# Altium footprint library Rosenberger.PCBLIB: 1 footprints
Each footprint in its own frame and in the unit in brackets; x right, y up, seen from the top. Pads: shape width x height; smd on the part's side, far side on the other; paste and mask are expansions set on the pad; w line width, h text height; cw(c..) or ccw(c..) is an arc to the next point about the centre after c.
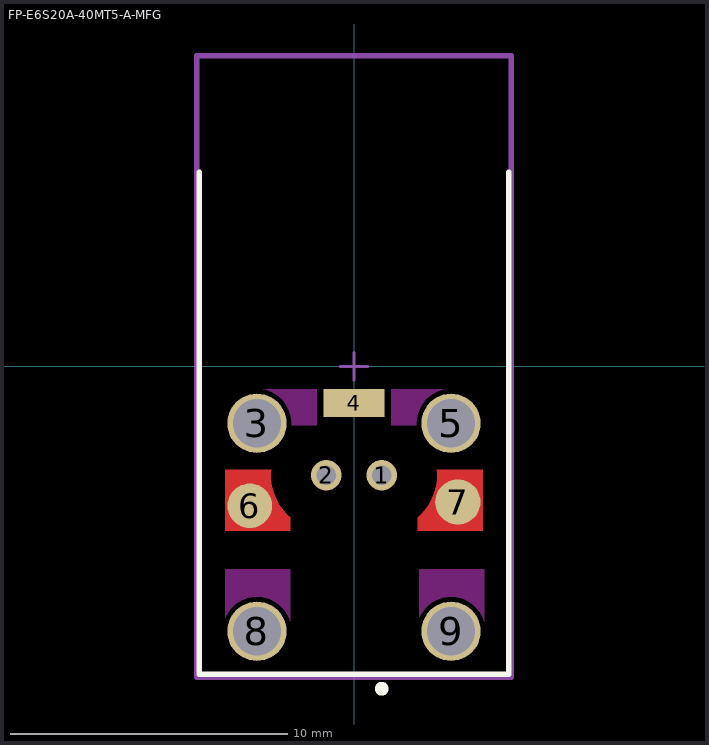
[diagram p0: the footprint, top view; thin cyan lines are the x and y axes]

## FP-E6S20A-40MT5-A-MFG [mm]
pads (9):
  round 1.1 hole 0.7 paste-1000 mask+0: 1(1,-3.92) 2(-1,-3.92)
  round 2.14 hole 1.74 paste-1000 mask+0: 3(-3.5,-2.05) 5(3.5,-2.05) 8(-3.5,-9.55) 9(3.5,-9.55)
  rect 2.2x1 smd paste+0 mask+0: 4(0,-1.32)
  round 1.609 smd paste+0 mask+0: 6(-3.756,-5.026)
  round 1.631 smd paste+0 mask+0: 7(3.744,-4.889)
Top Layer:
  region: 4.65,-3.72 2.99,-3.72 2.998,-3.84 2.994,-4.081 2.96,-4.319 2.898,-4.552 2.808,-4.775 2.692,-4.986 2.552,-5.182 2.389,-5.359 2.3,-5.44 2.3,-5.92 4.65,-5.92
  region: -4.65,-3.72 -2.99,-3.72 -2.998,-3.84 -2.994,-4.081 -2.96,-4.319 -2.898,-4.552 -2.808,-4.775 -2.692,-4.986 -2.552,-5.182 -2.389,-5.359 -2.3,-5.44 -2.3,-5.92 -4.65,-5.92
Top Overlay:
  circle w0.25: c1,-11.62 r0.125
  lines w0.2: -5.575,7 -5.575,-11.1 5.575,-11.1 5.575,7
Keep-Out Layer:
  region: 1.35,-0.82 1.35,-2.12 2.252,-2.12 2.251,-2.007 2.279,-1.783 2.347,-1.567 2.453,-1.368 2.593,-1.19 2.762,-1.041 2.956,-0.925 3.167,-0.845 3.277,-0.82
  region: -1.35,-0.82 -1.35,-2.12 -2.252,-2.12 -2.251,-2.007 -2.279,-1.783 -2.347,-1.567 -2.453,-1.368 -2.593,-1.19 -2.762,-1.041 -2.956,-0.925 -3.167,-0.845 -3.277,-0.82
  region: 2.35,-7.32 4.7,-7.32 4.7,-9.2 4.658,-9.079 4.538,-8.854 4.375,-8.658 4.175,-8.499 3.947,-8.383 3.701,-8.317 3.446,-8.302 3.194,-8.339 2.954,-8.426 2.737,-8.561 2.552,-8.736 2.406,-8.946 2.35,-9.061
  region: -4.65,-7.32 -2.3,-7.32 -2.3,-9.2 -2.342,-9.079 -2.462,-8.854 -2.625,-8.658 -2.825,-8.499 -3.053,-8.383 -3.299,-8.317 -3.554,-8.302 -3.806,-8.339 -4.046,-8.426 -4.263,-8.561 -4.448,-8.736 -4.594,-8.946 -4.65,-9.061
Top Assembly:
  lines w0.2: -5.675,-11.2 -5.675,11.2 5.675,11.2 5.675,-11.2 -5.675,-11.2
Top Courtyard:
  lines w0.2: -5.675,-11.2 -5.675,11.2 5.675,11.2 5.675,-11.2 -5.675,-11.2
Top Designator:
  text ".Designator" at 0,0.188 h1
Top Component Center:
  lines w0.1: -0.5,0 0.5,0 ; 0,-0.5 0,0.5
3D body "Conn_Rosenberger_E6S20A-40MT5-A_eec.STEP": height 0.25, standoff 0, extent -5.675,-11.2 5.675,11.2